# Altium footprint library SOT95P237X112-3L20N.PcbLib: 1 footprints
Each footprint in its own frame and in the unit in brackets; x right, y up, seen from the top. Pads: shape width x height; smd on the part's side, far side on the other; paste and mask are expansions set on the pad; w line width, h text height; cw(c..) or ccw(c..) is an arc to the next point about the centre after c.
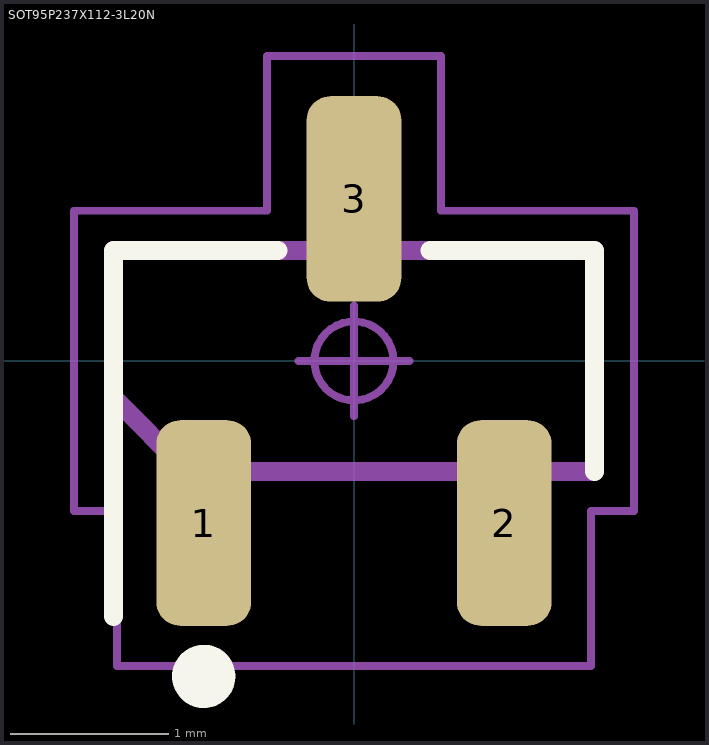
[diagram p0: the footprint, top view; thin cyan lines are the x and y axes]

## SOT95P237X112-3L20N [mm] "Small Outline Transistor (SOT23), 0.95 mm pitch; 3 pin, 2.92 mm L X 1.30 mm W X 1.12 mm H body"
height 1.12
pads (3):
  rrect50% 0.6x1.3 smd: 1(-0.95,-1.025) 2(0.95,-1.025) 3(0,1.025)
Top Overlay:
  circle w0.2: c-0.95,-1.995 r0.1
  lines w0.12: -1.52,-1.615 -1.52,0.7 -0.48,0.7 ; 0.48,0.7 1.52,0.7 1.52,-0.7
Mechanical 11:
  lines w0.12: -1.52,-0.233 -1.52,0.7 1.52,0.7 1.52,-0.7 -1.053,-0.7 -1.52,-0.233
Mechanical 15:
  circle w0.05: c0,0 r0.25
  lines w0.05: -0.35,0 0.35,0 ; 0,-0.35 0,0.35 ; -1.77,-0.95 -1.77,0.95 -0.55,0.95 -0.55,1.93 0.55,1.93 0.55,0.95 1.77,0.95 1.77,-0.95 1.5,-0.95 1.5,-1.93 -1.5,-1.93 -1.5,-0.95 -1.77,-0.95
3D body: height 1.3, standoff 0, extent -1.5,-1.5 1.5,1.5